# Altium schematic symbol library IC.FPGA.SchLib: 5 symbols
Pins are listed as number, name and electrical type; pins without a type are passive.

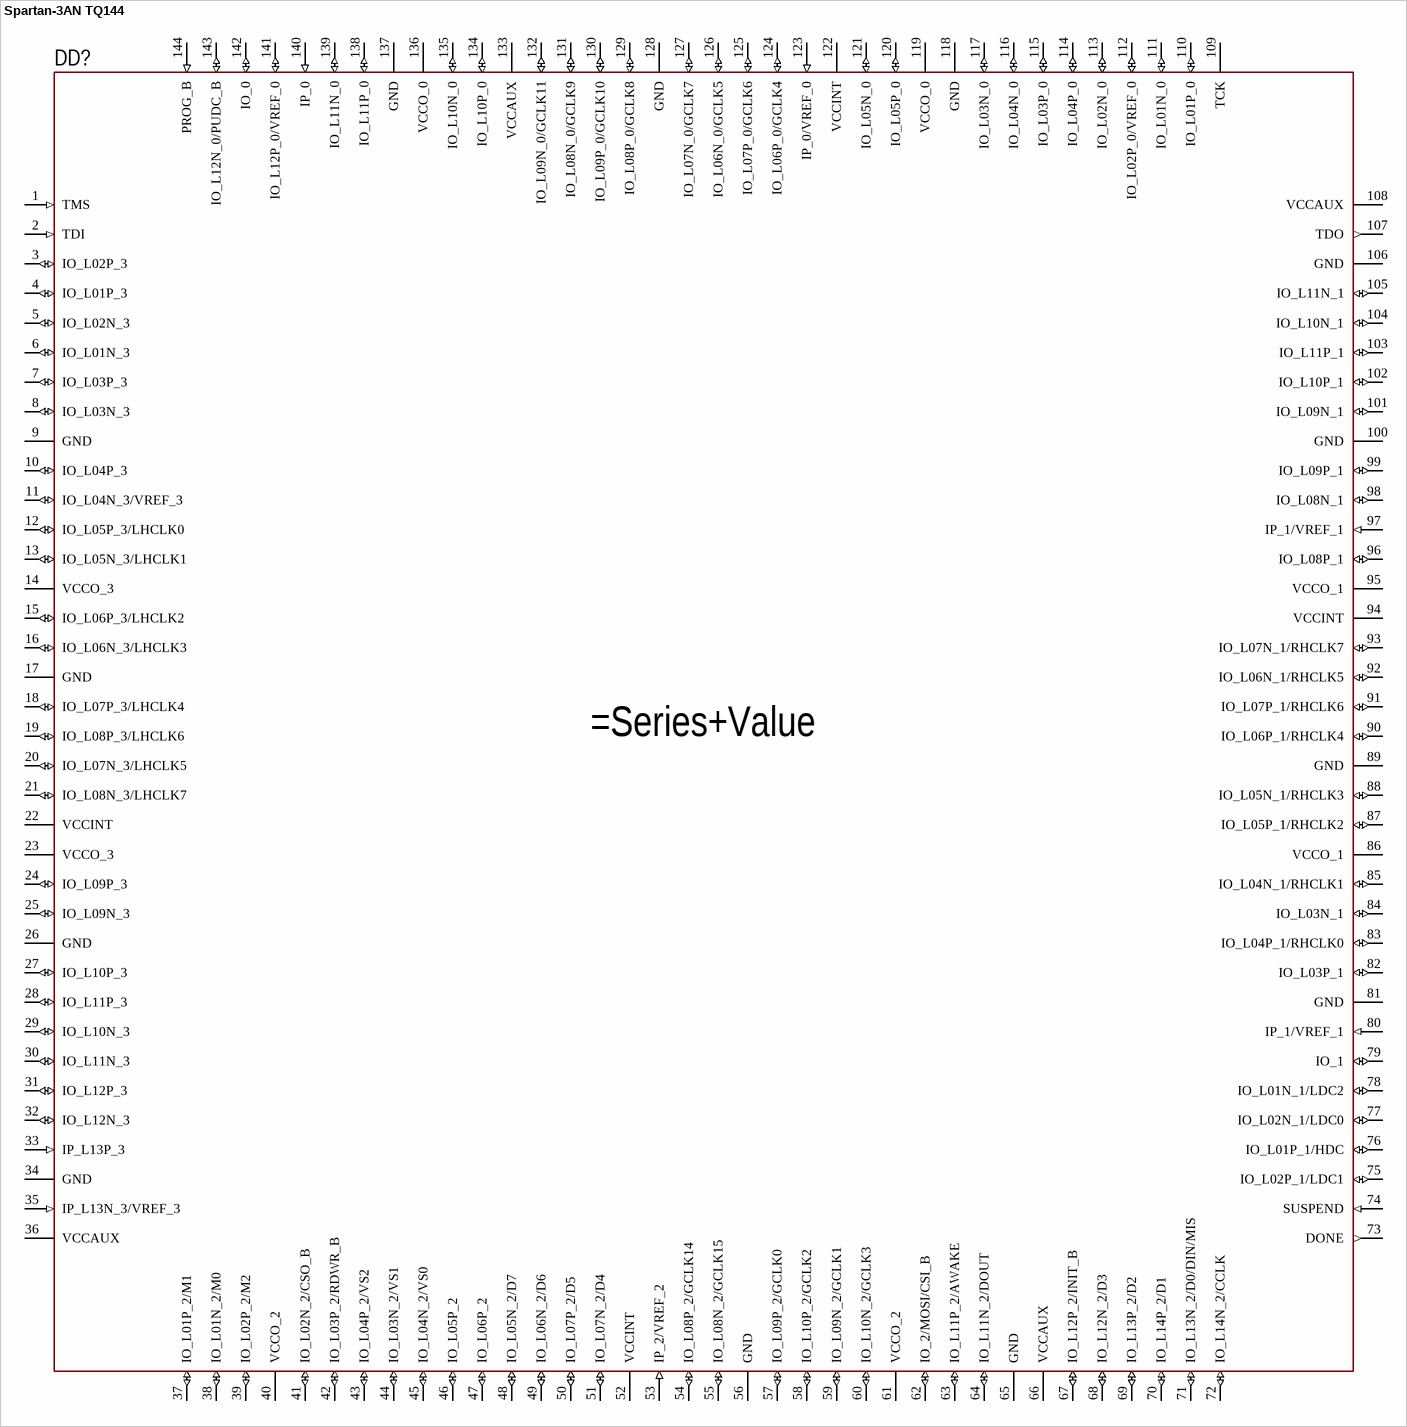
[diagram p0: symbol Spartan-3AN TQ144]

## Spartan-3AN TQ144
designator DD?
Spartan®-3 AN Field Programmable Gate Array (FPGA), 108 I/O, 144-Pin.
pins: 1 TMS (in), 2 TDI (in), 3 IO_L02P_3 (io), 4 IO_L01P_3 (io), 5 IO_L02N_3 (io), 6 IO_L01N_3 (io), 7 IO_L03P_3 (io), 8 IO_L03N_3 (io), 9 GND, 10 IO_L04P_3 (io), 11 IO_L04N_3/VREF_3 (io), 12 IO_L05P_3/LHCLK0 (io), 13 IO_L05N_3/LHCLK1 (io), 14 VCCO_3, 15 IO_L06P_3/LHCLK2 (io), 16 IO_L06N_3/LHCLK3 (io), 17 GND, 18 IO_L07P_3/LHCLK4 (io), 19 IO_L08P_3/LHCLK6 (io), 20 IO_L07N_3/LHCLK5 (io), 21 IO_L08N_3/LHCLK7 (io), 22 VCCINT, 23 VCCO_3, 24 IO_L09P_3 (io), 25 IO_L09N_3 (io), 26 GND, 27 IO_L10P_3 (io), 28 IO_L11P_3 (io), 29 IO_L10N_3 (io), 30 IO_L11N_3 (io), 31 IO_L12P_3 (io), 32 IO_L12N_3 (io), 33 IP_L13P_3 (in), 34 GND, 35 IP_L13N_3/VREF_3 (in), 36 VCCAUX, 37 IO_L01P_2/M1 (io), 38 IO_L01N_2/M0 (io), 39 IO_L02P_2/M2 (io), 40 VCCO_2, 41 IO_L02N_2/CSO_B (io), 42 IO_L03P_2/RDWR_B (io), 43 IO_L04P_2/VS2 (io), 44 IO_L03N_2/VS1 (io), 45 IO_L04N_2/VS0 (io), 46 IO_L05P_2 (io), 47 IO_L06P_2 (io), 48 IO_L05N_2/D7 (io), 49 IO_L06N_2/D6 (io), 50 IO_L07P_2/D5 (io), 51 IO_L07N_2/D4 (io), 52 VCCINT, 53 IP_2/VREF_2 (in), 54 IO_L08P_2/GCLK14 (io), 55 IO_L08N_2/GCLK15 (io), 56 GND, 57 IO_L09P_2/GCLK0 (io), 58 IO_L10P_2/GCLK2 (io), 59 IO_L09N_2/GCLK1 (io), 60 IO_L10N_2/GCLK3 (io), 61 VCCO_2, 62 IO_2/MOSI/CSI_B (io), 63 IO_L11P_2/AWAKE (io), 64 IO_L11N_2/DOUT (io), 65 GND, 66 VCCAUX, 67 IO_L12P_2/INIT_B (io), 68 IO_L12N_2/D3 (io), 69 IO_L13P_2/D2 (io), 70 IO_L14P_2/D1 (io), 71 IO_L13N_2/D0/DIN/MIS (io), 72 IO_L14N_2/CCLK (io), 73 DONE (out), 74 SUSPEND (in), 75 IO_L02P_1/LDC1 (io), 76 IO_L01P_1/HDC (io), 77 IO_L02N_1/LDC0 (io), 78 IO_L01N_1/LDC2 (io), 79 IO_1 (io), 80 IP_1/VREF_1 (in), 81 GND, 82 IO_L03P_1 (io), 83 IO_L04P_1/RHCLK0 (io), 84 IO_L03N_1 (io), 85 IO_L04N_1/RHCLK1 (io), 86 VCCO_1, 87 IO_L05P_1/RHCLK2 (io), 88 IO_L05N_1/RHCLK3 (io), 89 GND, 90 IO_L06P_1/RHCLK4 (io), 91 IO_L07P_1/RHCLK6 (io), 92 IO_L06N_1/RHCLK5 (io), 93 IO_L07N_1/RHCLK7 (io), 94 VCCINT, 95 VCCO_1, 96 IO_L08P_1 (io), 97 IP_1/VREF_1 (in), 98 IO_L08N_1 (io), 99 IO_L09P_1 (io), 100 GND, 101 IO_L09N_1 (io), 102 IO_L10P_1 (io), 103 IO_L11P_1 (io), 104 IO_L10N_1 (io), 105 IO_L11N_1 (io), 106 GND, 107 TDO (out), 108 VCCAUX, 109 TCK, 110 IO_L01P_0 (io), 111 IO_L01N_0 (io), 112 IO_L02P_0/VREF_0 (io), 113 IO_L02N_0 (io), 114 IO_L04P_0 (io), 115 IO_L03P_0 (io), 116 IO_L04N_0 (io), 117 IO_L03N_0 (io), 118 GND, 119 VCCO_0, 120 IO_L05P_0 (io), 121 IO_L05N_0 (io), 122 VCCINT, 123 IP_0/VREF_0 (in), 124 IO_L06P_0/GCLK4 (io), 125 IO_L07P_0/GCLK6 (io), 126 IO_L06N_0/GCLK5 (io), 127 IO_L07N_0/GCLK7 (io), 128 GND, 129 IO_L08P_0/GCLK8 (io), 130 IO_L09P_0/GCLK10 (io), 131 IO_L08N_0/GCLK9 (io), 132 IO_L09N_0/GCLK11 (io), 133 VCCAUX, 134 IO_L10P_0 (io), 135 IO_L10N_0 (io), 136 VCCO_0, 137 GND, 138 IO_L11P_0 (io), 139 IO_L11N_0 (io), 140 IP_0 (in), 141 IO_L12P_0/VREF_0 (io), 142 IO_0 (io), 143 IO_L12N_0/PUDC_B (io), 144 PROG_B (in)

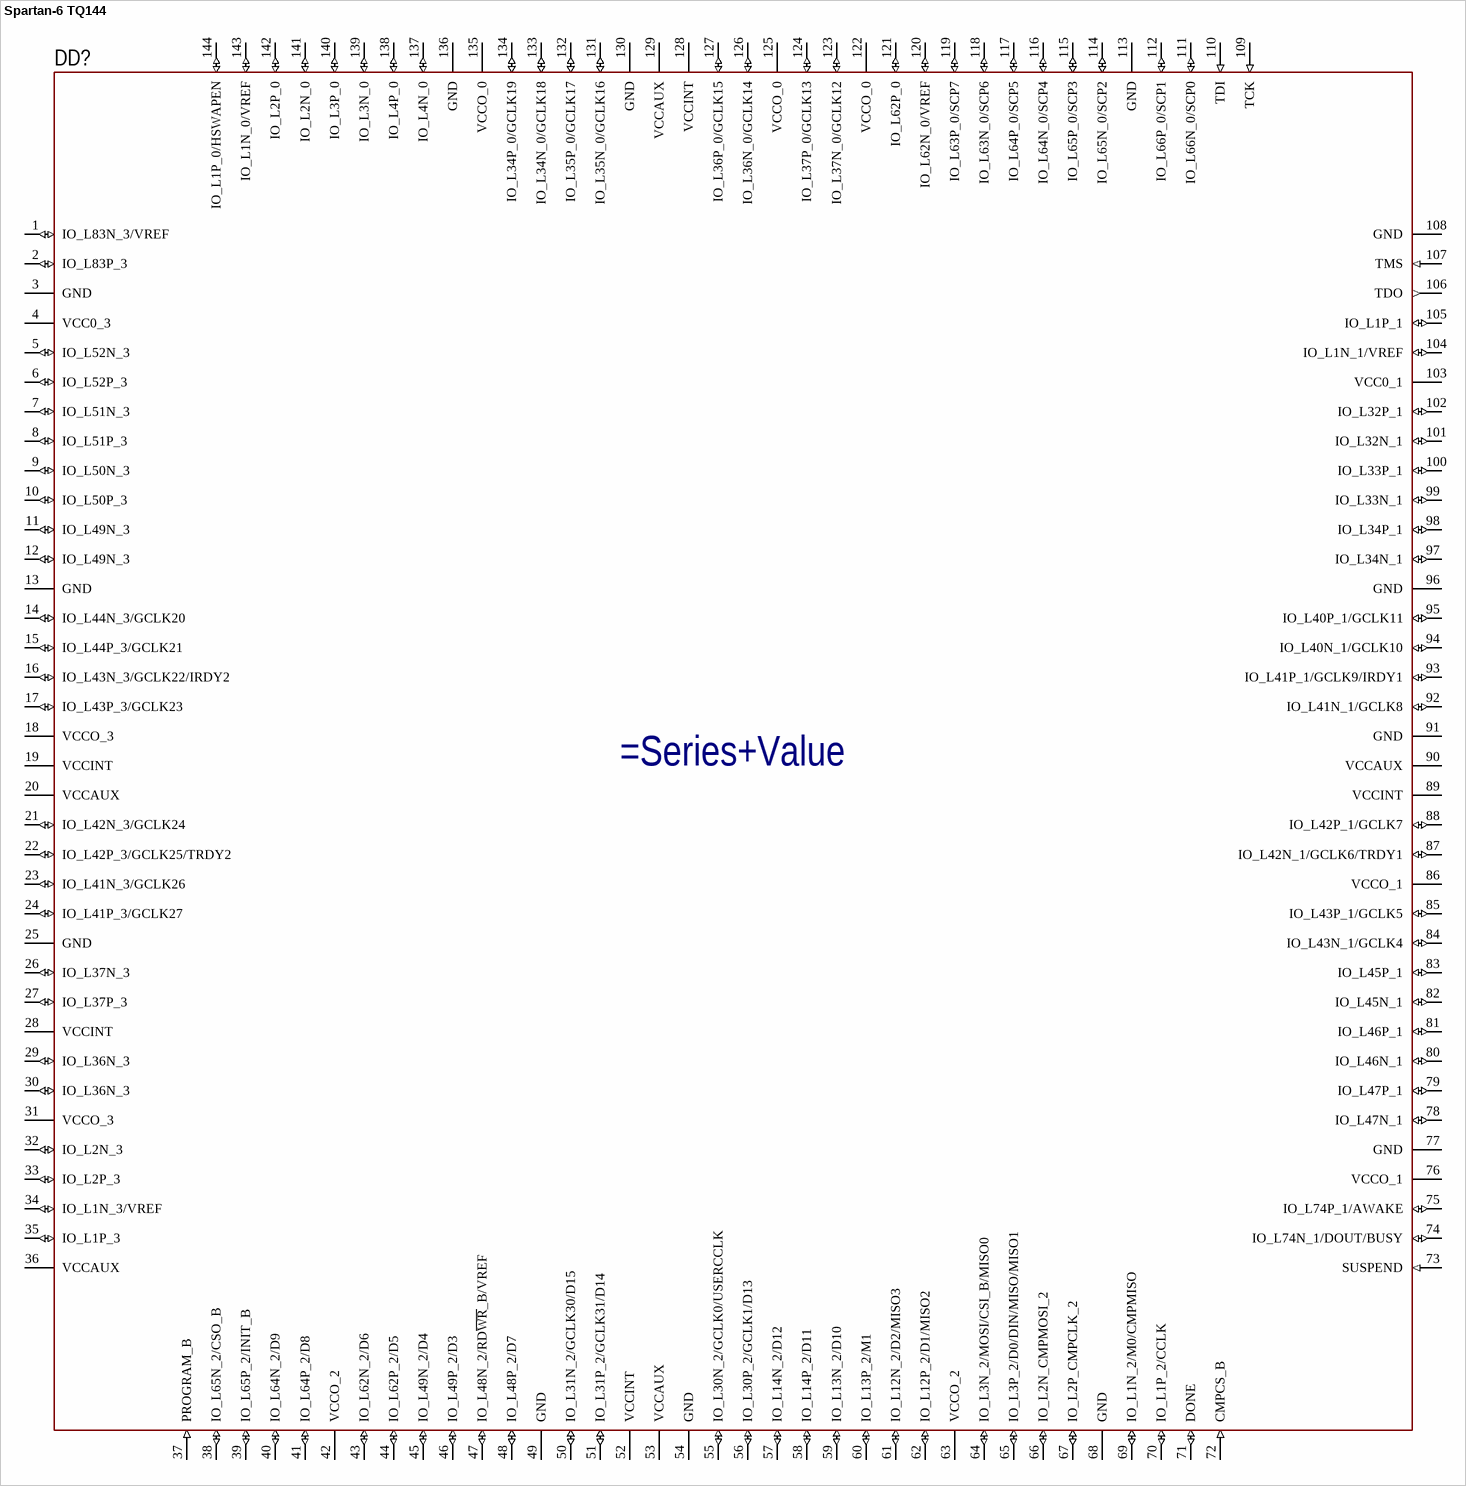
[diagram p1: symbol Spartan-6 TQ144]

## Spartan-6 TQ144
designator DD?
Spartan®-6 LX Field Programmable Gate Array (FPGA), 102 I/O, 144-Pin.
pins: 1 IO_L83N_3/VREF (io), 2 IO_L83P_3 (io), 3 GND, 4 VCC0_3, 5 IO_L52N_3 (io), 6 IO_L52P_3 (io), 7 IO_L51N_3 (io), 8 IO_L51P_3 (io), 9 IO_L50N_3 (io), 10 IO_L50P_3 (io), 11 IO_L49N_3 (io), 12 IO_L49N_3 (io), 13 GND, 14 IO_L44N_3/GCLK20 (io), 15 IO_L44P_3/GCLK21 (io), 16 IO_L43N_3/GCLK22/IRDY2 (io), 17 IO_L43P_3/GCLK23 (io), 18 VCCO_3, 19 VCCINT, 20 VCCAUX, 21 IO_L42N_3/GCLK24 (io), 22 IO_L42P_3/GCLK25/TRDY2 (io), 23 IO_L41N_3/GCLK26 (io), 24 IO_L41P_3/GCLK27 (io), 25 GND, 26 IO_L37N_3 (io), 27 IO_L37P_3 (io), 28 VCCINT, 29 IO_L36N_3 (io), 30 IO_L36N_3 (io), 31 VCCO_3, 32 IO_L2N_3 (io), 33 IO_L2P_3 (io), 34 IO_L1N_3/VREF (io), 35 IO_L1P_3 (io), 36 VCCAUX, 37 PROGRAM_B (in), 38 IO_L65N_2/CSO_B (io), 39 IO_L65P_2/INIT_B (io), 40 IO_L64N_2/D9 (io), 41 IO_L64P_2/D8 (io), 42 VCCO_2, 43 IO_L62N_2/D6 (io), 44 IO_L62P_2/D5 (io), 45 IO_L49N_2/D4 (io), 46 IO_L49P_2/D3 (io), 47 IO_L48N_2/RD~{WR}_B/VREF (io), 48 IO_L48P_2/D7 (io), 49 GND, 50 IO_L31N_2/GCLK30/D15 (io), 51 IO_L31P_2/GCLK31/D14 (io), 52 VCCINT, 53 VCCAUX, 54 GND, 55 IO_L30N_2/GCLK0/USERCCLK (io), 56 IO_L30P_2/GCLK1/D13 (io), 57 IO_L14N_2/D12 (io), 58 IO_L14P_2/D11 (io), 59 IO_L13N_2/D10 (io), 60 IO_L13P_2/M1 (io), 61 IO_L12N_2/D2/MISO3 (io), 62 IO_L12P_2/D1/MISO2 (io), 63 VCCO_2, 64 IO_L3N_2/MOSI/CSI_B/MISO0 (io), 65 IO_L3P_2/D0/DIN/MISO/MISO1 (io), 66 IO_L2N_CMPMOSI_2 (io), 67 IO_L2P_CMPCLK_2 (io), 68 GND, 69 IO_L1N_2/M0/CMPMISO (io), 70 IO_L1P_2/CCLK (io), 71 DONE (io), 72 CMPCS_B (in), 73 SUSPEND (in), 74 IO_L74N_1/DOUT/BUSY (io), 75 IO_L74P_1/AWAKE (io), 76 VCCO_1, 77 GND, 78 IO_L47N_1 (io), 79 IO_L47P_1 (io), 80 IO_L46N_1 (io), 81 IO_L46P_1 (io), 82 IO_L45N_1 (io), 83 IO_L45P_1 (io), 84 IO_L43N_1/GCLK4 (io), 85 IO_L43P_1/GCLK5 (io), 86 VCCO_1, 87 IO_L42N_1/GCLK6/TRDY1 (io), 88 IO_L42P_1/GCLK7 (io), 89 VCCINT, 90 VCCAUX, 91 GND, 92 IO_L41N_1/GCLK8 (io), 93 IO_L41P_1/GCLK9/IRDY1 (io), 94 IO_L40N_1/GCLK10 (io), 95 IO_L40P_1/GCLK11 (io), 96 GND, 97 IO_L34N_1 (io), 98 IO_L34P_1 (io), 99 IO_L33N_1 (io), 100 IO_L33P_1 (io), 101 IO_L32N_1 (io), 102 IO_L32P_1 (io), 103 VCC0_1, 104 IO_L1N_1/VREF (io), 105 IO_L1P_1 (io), 106 TDO (out), 107 TMS (in), 108 GND, 109 TCK (in), 110 TDI (in), 111 IO_L66N_0/SCP0 (io), 112 IO_L66P_0/SCP1 (io), 113 GND, 114 IO_L65N_0/SCP2 (io), 115 IO_L65P_0/SCP3 (io), 116 IO_L64N_0/SCP4 (io), 117 IO_L64P_0/SCP5 (io), 118 IO_L63N_0/SCP6 (io), 119 IO_L63P_0/SCP7 (io), 120 IO_L62N_0/VREF (io), 121 IO_L62P_0 (io), 122 VCCO_0, 123 IO_L37N_0/GCLK12 (io), 124 IO_L37P_0/GCLK13 (io), 125 VCCO_0, 126 IO_L36N_0/GCLK14 (io), 127 IO_L36P_0/GCLK15 (io), 128 VCCINT, 129 VCCAUX, 130 GND, 131 IO_L35N_0/GCLK16 (io), 132 IO_L35P_0/GCLK17 (io), 133 IO_L34N_0/GCLK18 (io), 134 IO_L34P_0/GCLK19 (io), 135 VCCO_0, 136 GND, 137 IO_L4N_0 (io), 138 IO_L4P_0 (io), 139 IO_L3N_0 (io), 140 IO_L3P_0 (io), 141 IO_L2N_0 (io), 142 IO_L2P_0 (io), 143 IO_L1N_0/VREF (io), 144 IO_L1P_0/HSWAPEN (io)

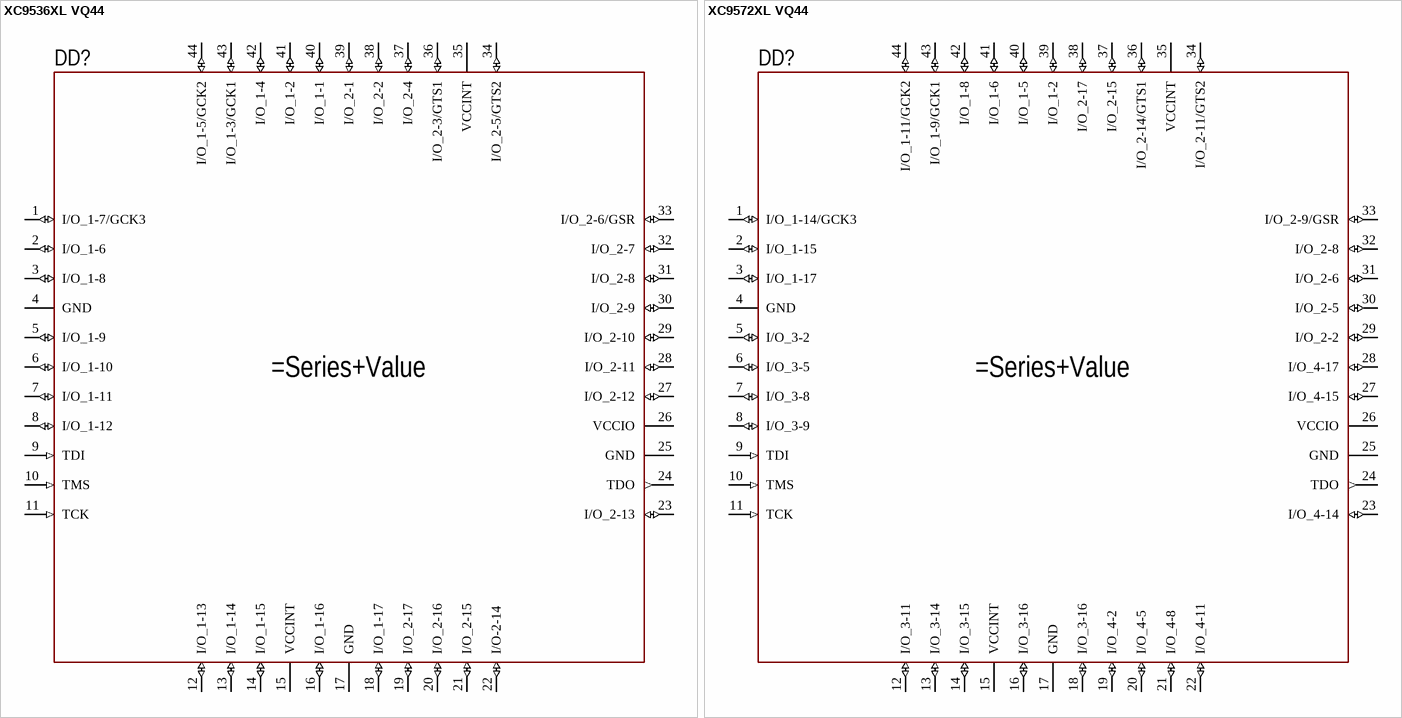
[diagram p2: symbols XC9536XL VQ44 to XC9572XL VQ44]

## XC9536XL VQ44
designator DD?
XC9536XL High Performance CPLD, VQ44 Package3
footprint VQFP-44_10.00x10.00mm (VQFP, 44-Leads, Body 10.00x10.00mm, Pitch 0.80mm, IPC Medium Density)
pins: 1 I/O_1-7/GCK3 (io), 2 I/O_1-6 (io), 3 I/O_1-8 (io), 4 GND, 5 I/O_1-9 (io), 6 I/O_1-10 (io), 7 I/O_1-11 (io), 8 I/O_1-12 (io), 9 TDI (in), 10 TMS (in), 11 TCK (in), 12 I/O_1-13 (io), 13 I/O_1-14 (io), 14 I/O_1-15 (io), 15 VCCINT, 16 I/O_1-16 (io), 17 GND, 18 I/O_1-17 (io), 19 I/O_2-17 (io), 20 I/O_2-16 (io), 21 I/O_2-15 (io), 22 I/O-2-14 (io), 23 I/O_2-13 (io), 24 TDO (out), 25 GND, 26 VCCIO, 27 I/O_2-12 (io), 28 I/O_2-11 (io), 29 I/O_2-10 (io), 30 I/O_2-9 (io), 31 I/O_2-8 (io), 32 I/O_2-7 (io), 33 I/O_2-6/GSR (io), 34 I/O_2-5/GTS2 (io), 35 VCCINT, 36 I/O_2-3/GTS1 (io), 37 I/O_2-4 (io), 38 I/O_2-2 (io), 39 I/O_2-1 (io), 40 I/O_1-1 (io), 41 I/O_1-2 (io), 42 I/O_1-4 (io), 43 I/O_1-3/GCK1 (io), 44 I/O_1-5/GCK2 (io)

## XC9572XL VQ44
designator DD?
XC9572XL High Performance CPLD
footprint VQFP-44_10.00x10.00mm (VQFP, 44-Leads, Body 10.00x10.00mm, Pitch 0.80mm, IPC Medium Density)
pins: 1 I/O_1-14/GCK3 (io), 2 I/O_1-15 (io), 3 I/O_1-17 (io), 4 GND, 5 I/O_3-2 (io), 6 I/O_3-5 (io), 7 I/O_3-8 (io), 8 I/O_3-9 (io), 9 TDI (in), 10 TMS (in), 11 TCK (in), 12 I/O_3-11 (io), 13 I/O_3-14 (io), 14 I/O_3-15 (io), 15 VCCINT, 16 I/O_3-16 (io), 17 GND, 18 I/O_3-16 (io), 19 I/O_4-2 (io), 20 I/O_4-5 (io), 21 I/O_4-8 (io), 22 I/O_4-11 (io), 23 I/O_4-14 (io), 24 TDO (out), 25 GND, 26 VCCIO, 27 I/O_4-15 (io), 28 I/O_4-17 (io), 29 I/O_2-2 (io), 30 I/O_2-5 (io), 31 I/O_2-6 (io), 32 I/O_2-8 (io), 33 I/O_2-9/GSR (io), 34 I/O_2-11/GTS2 (io), 35 VCCINT, 36 I/O_2-14/GTS1 (io), 37 I/O_2-15 (io), 38 I/O_2-17 (io), 39 I/O_1-2 (io), 40 I/O_1-5 (io), 41 I/O_1-6 (io), 42 I/O_1-8 (io), 43 I/O_1-9/GCK1 (io), 44 I/O_1-11/GCK2 (io)

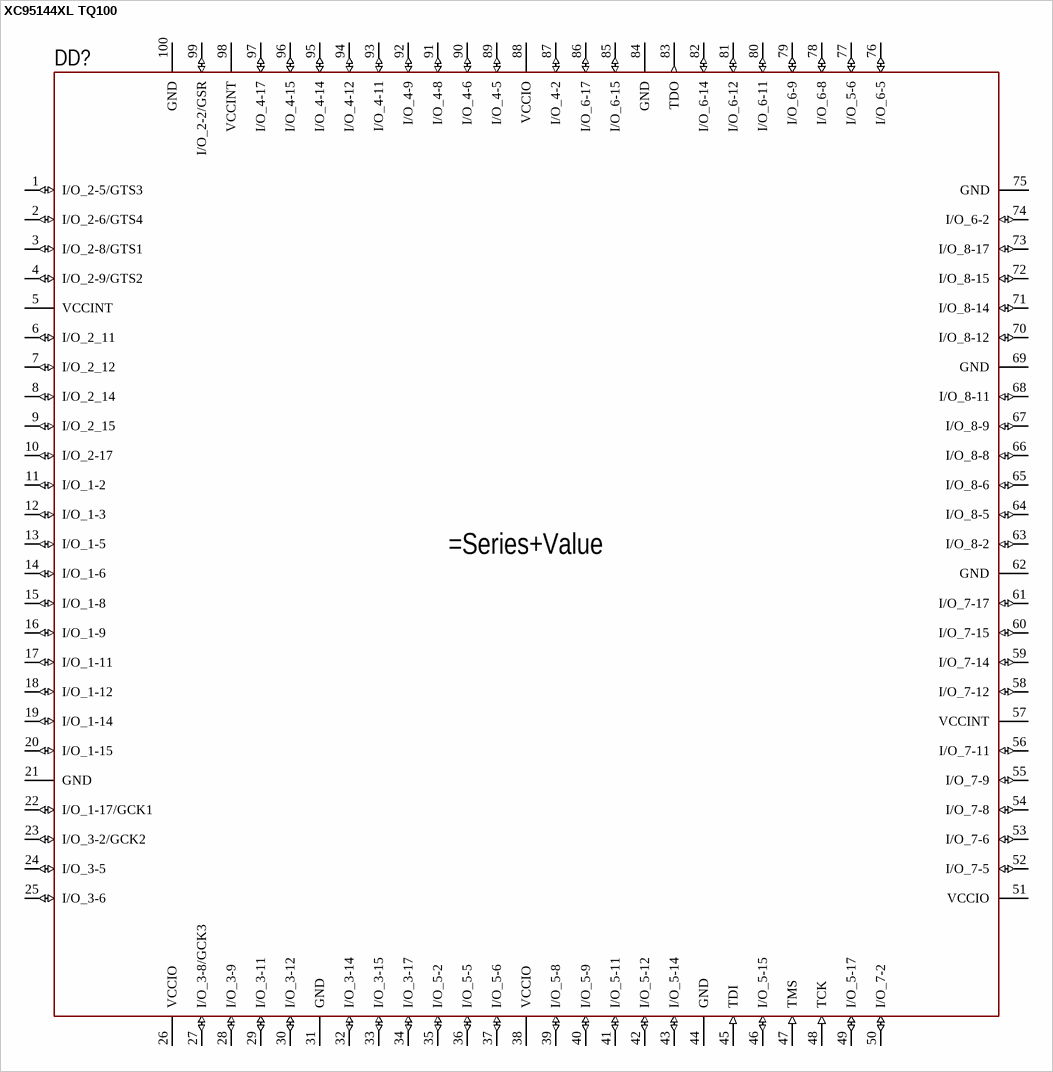
[diagram p3: symbol XC95144XL TQ100]

## XC95144XL TQ100
designator DD?
XC95144XL High Performance CPLD; Temp: *; Package: *; Series: *; Speed: *
footprint TQFP-100_14.00x14.00mm (TQFP, 100-Leads, Body 14.00x14.00mm, Pitch 0.50mm, IPC Medium Density)
pins: 1 I/O_2-5/GTS3 (io), 2 I/O_2-6/GTS4 (io), 3 I/O_2-8/GTS1 (io), 4 I/O_2-9/GTS2 (io), 5 VCCINT, 6 I/O_2_11 (io), 7 I/O_2_12 (io), 8 I/O_2_14 (io), 9 I/O_2_15 (io), 10 I/O_2-17 (io), 11 I/O_1-2 (io), 12 I/O_1-3 (io), 13 I/O_1-5 (io), 14 I/O_1-6 (io), 15 I/O_1-8 (io), 16 I/O_1-9 (io), 17 I/O_1-11 (io), 18 I/O_1-12 (io), 19 I/O_1-14 (io), 20 I/O_1-15 (io), 21 GND, 22 I/O_1-17/GCK1 (io), 23 I/O_3-2/GCK2 (io), 24 I/O_3-5 (io), 25 I/O_3-6 (io), 26 VCCIO, 27 I/O_3-8/GCK3 (io), 28 I/O_3-9 (io), 29 I/O_3-11 (io), 30 I/O_3-12 (io), 31 GND, 32 I/O_3-14 (io), 33 I/O_3-15 (io), 34 I/O_3-17 (io), 35 I/O_5-2 (io), 36 I/O_5-5 (io), 37 I/O_5-6 (io), 38 VCCIO, 39 I/O_5-8 (io), 40 I/O_5-9 (io), 41 I/O_5-11 (io), 42 I/O_5-12 (io), 43 I/O_5-14 (io), 44 GND, 45 TDI (in), 46 I/O_5-15 (io), 47 TMS (in), 48 TCK (in), 49 I/O_5-17 (io), 50 I/O_7-2 (io), 51 VCCIO, 52 I/O_7-5 (io), 53 I/O_7-6 (io), 54 I/O_7-8 (io), 55 I/O_7-9 (io), 56 I/O_7-11 (io), 57 VCCINT, 58 I/O_7-12 (io), 59 I/O_7-14 (io), 60 I/O_7-15 (io), 61 I/O_7-17 (io), 62 GND, 63 I/O_8-2 (io), 64 I/O_8-5 (io), 65 I/O_8-6 (io), 66 I/O_8-8 (io), 67 I/O_8-9 (io), 68 I/O_8-11 (io), 69 GND, 70 I/O_8-12 (io), 71 I/O_8-14 (io), 72 I/O_8-15 (io), 73 I/O_8-17 (io), 74 I/O_6-2 (io), 75 GND, 76 I/O_6-5 (io), 77 I/O_5-6 (io), 78 I/O_6-8 (io), 79 I/O_6-9 (io), 80 I/O_6-11 (io), 81 I/O_6-12 (io), 82 I/O_6-14 (io), 83 TDO (out), 84 GND, 85 I/O_6-15 (io), 86 I/O_6-17 (io), 87 I/O_4-2 (io), 88 VCCIO, 89 I/O_4-5 (io), 90 I/O_4-6 (io), 91 I/O_4-8 (io), 92 I/O_4-9 (io), 93 I/O_4-11 (io), 94 I/O_4-12 (io), 95 I/O_4-14 (io), 96 I/O_4-15 (io), 97 I/O_4-17 (io), 98 VCCINT, 99 I/O_2-2/GSR (io), 100 GND